# Altium schematic symbol library Buzzers.SchLib: 1 symbol
Pins are listed as number, name and electrical type; pins without a type are passive.

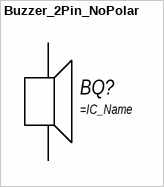
[diagram p0: symbol Buzzer_2Pin_NoPolar]

## Buzzer_2Pin_NoPolar
designator BQ?
pins: 1, 2